# Altium schematic symbol library SCH_Passive.SchLib: 32 symbols
Pins are listed as number, name and electrical type; pins without a type are passive.

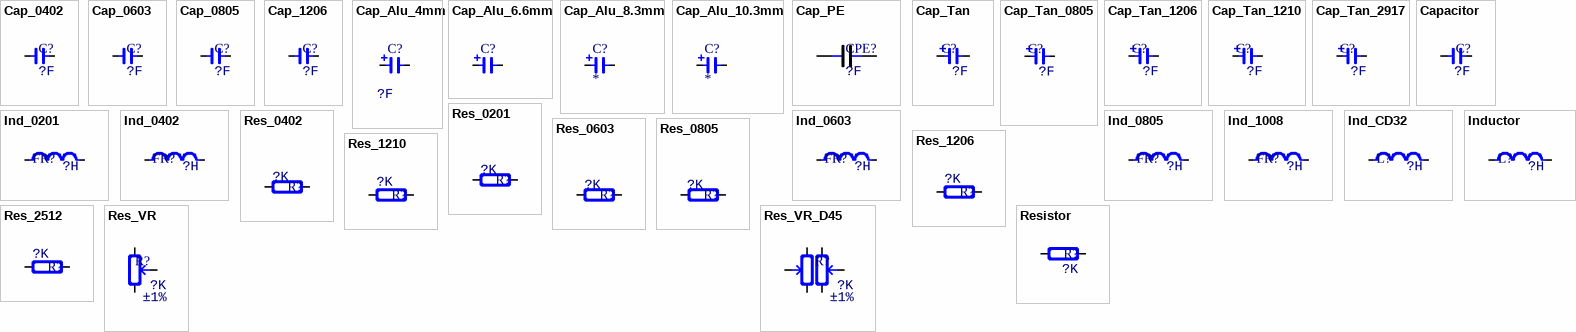
[diagram p0: symbols Cap_0402 to Resistor]

## Cap_0402
designator C?  value ?F
Capacitor; Supplier: https://www.thegioiic.com/product/tu-gom-dan-smd?prid=6678; ComponentLink1Description: New link; ComponentLink1URL: *
footprint CAP_0402
pins: 1, 2

## Cap_0603
designator C?  value ?F
Capacitor; Supplier: https://www.thegioiic.com/product/tu-gom-dan-smd?prid=6679
footprint CAP-0603
pins: 1, 2

## Cap_0805
designator C?  value ?F
Capacitor; Supplier: https://www.thegioiic.com/product/tu-gom-dan-smd?prid=6680
footprint CAP-0805
pins: 1, 2

## Cap_1206
designator C?  value ?F
Capacitor; Supplier: https://www.thegioiic.com/product/tu-gom-dan-smd?prid=6681
footprint CAP-1206
pins: 1, 2

## Cap_Alu_4mm
designator C?  value ?F  (hidden comment: *)
Capacitor Alunium; Supplier: https://www.thegioiic.com/product/tu-hoa-nhom?prid=6714
footprint CAP ALUM 6.6MM (Aluminum Electrolytic Capacitor, Body 6.60x6.60x7.70mm, IPC Low Density)
pins: 1, 2

## Cap_Alu_6.6mm
designator C?  (value not drawn)
Capacitor Alunium; Value: ?F; Supplier: https://www.thegioiic.com/product/tu-hoa-nhom?prid=6714
footprint CAP ALUM 6.6MM (Aluminum Electrolytic Capacitor, Body 6.60x6.60x7.70mm, IPC Low Density)
pins: 1, 2

## Cap_Alu_8.3mm
designator C?
Capacitor Alunium; Value: ?F; Supplier: https://www.thegioiic.com/product/tu-hoa-nhom?prid=6714
footprint CAP ALUM 8.3MM (Aluminum Electrolytic Capacitor, Body 8.30x8.30x10.50mm, IPC Low Density)
pins: 1, 2

## Cap_Alu_10.3mm
designator C?
Capacitor Alunium; Value: ?F; Supplier: https://www.thegioiic.com/product/tu-hoa-nhom?prid=6714
footprint CAP ALUM 10.3MM (Aluminum Electrolytic Capacitor, Body 10.30x10.30x10.50mm, IPC Low Density)
pins: 1, 2

## Cap_PE
designator CPE?  value ?F
Capacitor; Supplier: https://www.thegioiic.com/products/tu-gom-xanh-10nf-3000v
footprint CN3 (Cap np W 0.3)
pins: 1, 2

## Cap_Tan
designator C?  value ?F
Capacitor Tantalum; Manufacturer: *
footprint CAP_TAN_0805
footprint CAP_TAN_1206 (Molded Capacitor, 2-Leads, Body 3.20x1.60mm, IPC Medium Density)
footprint CAP_TAN_1210 (Molded Capacitor, 2-Leads, Body 3.50x2.80mm, IPC Medium Density)
footprint CAP_TAN_2312 (Molded Capacitor, 2-Leads, Body 6.00x3.20mm, IPC Medium Density)
footprint CAP_TAN_2917 (Molded Capacitor, 2-Leads, Body 7.30x4.30mm, IPC Medium Density)
pins: 1, 2
1 alternate drawing of the same symbol

## Cap_Tan_0805
designator C?  value ?F
Capacitor Tantalum; Manufacturer: *
footprint CAP_TAN_0805
pins: 1, 2
1 alternate drawing of the same symbol

## Cap_Tan_1206
designator C?, comment value ?F  (hidden comment: C1206)
Capacitor Tantalum; Supplier: https://www.thegioiic.com/product/tu-tantalum?prid=6887%2C20772&stock=1
footprint CAP_TAN_1206 (Molded Capacitor, 2-Leads, Body 3.20x1.60mm, IPC Medium Density)
pins: 1, 2
1 alternate drawing of the same symbol

## Cap_Tan_1210
designator C?, comment value ?F  (hidden comment: C1210)
Capacitor Tantalum; Manufacturer: *
footprint CAP_TAN_1210 (Molded Capacitor, 2-Leads, Body 3.50x2.80mm, IPC Medium Density)
pins: 1, 2
1 alternate drawing of the same symbol

## Cap_Tan_2917
designator C?, comment value ?F  (hidden comment: C2917)
Capacitor Tantalum; Manufacturer: *
footprint CAP_TAN_2917 (Molded Capacitor, 2-Leads, Body 7.30x4.30mm, IPC Medium Density)
pins: 1, 2
1 alternate drawing of the same symbol

## Capacitor
designator C?  value ?F
Unpolarized capacitor; Note: ±10%; Manufacturer: *
footprint CAP-0402
footprint CAP-0603
footprint CAP-0805
footprint CAP-1206
footprint CAP-2520 (TOKO INDUCTOR DFE252012 SERIES)
footprint CAP-3225 (Chip Capacitor, Body 3.2x2.5mm, IPC Medium Density)
pins: 1, 2

## Ind_0201
designator FR?, comment value ?H  (hidden comment: H0201)
Inductor; Specification: High frequency chip inductor ±5%; Manufacturer: *
footprint IND_0201
pins: 1, 2

## Ind_0402
designator FR?, comment value ?H  (hidden comment: H0402)
Inductor; Specification: High frequency chip inductor ±5%; Manufacturer: *
footprint IND_0402
pins: 1, 2

## Ind_0603
designator FR?, comment value ?H  (hidden comment: H0603)
Inductor; Specification: High frequency chip inductor ±5%; Manufacturer: *
footprint IND_0603
pins: 1, 2

## Ind_0805
designator FR?, comment value ?H  (hidden comment: H0805)
Inductor; Specification: High frequency chip inductor ±5%; Manufacturer: *
footprint IND_0805
pins: 1, 2

## Ind_1008
designator FR?, comment value ?H  (hidden comment: H1008)
Inductor; Specification: High frequency chip inductor ±5%; Manufacturer: *
footprint IND_1008
pins: 1, 2

## Ind_CD32
designator L?, comment value ?H  (hidden comment: CD32)
Power Inductor; Specification: High frequency chip inductor ±5%; Manufacturer: *
footprint IND_CD32
pins: 1, 2

## Inductor
designator L?  value ?H
SMD Inductor; Manufacturer: *
footprint INDP120120X80N (Precision Wire Wound Inductor, 2-Leads, Body 12.00x12.00mm, IPC Medium Density)
pins: 1, 2

## Res_0201
designator R?, comment value ?K  (hidden comment: R0201)
Resistor; Specification: ±1%; Manufacturer: *
footprint RES-0201
pins: 1, 2

## Res_0402
designator R?, comment value ?K  (hidden comment: R0402)
Resistor; Manufacturer: *
footprint RES-0402
pins: 1, 2

## Res_0603
designator R?, comment value ?K  (hidden comment: R0603)
Resistor; Supplier: https://www.thegioiic.com/product/dien-tro-dan-smd?prid=6628&stock=1
footprint RES-0603
pins: 1, 2

## Res_0805
designator R?, comment value ?K  (hidden comment: R0805)
Resistor; Supplier: https://www.thegioiic.com/product/dien-tro-dan-smd?prid=6630&stock=1
footprint RES-0805
pins: 1, 2

## Res_1206
designator R?  value ?K
Resistor; Supplier: https://www.thegioiic.com/product/dien-tro-dan-smd?prid=6632&stock=1
footprint RES-1206
pins: 1, 2

## Res_1210
designator R?  value ?K
Resistor; Manufacturer: *
footprint RES-1210 (Chip Capacitor, Body 3.2x2.5mm, IPC Medium Density)
pins: 1, 2

## Res_2512
designator R?, comment value ?K  (hidden comment: R2512)
Resistor; Specification: ±1%; Supplier: https://www.thegioiic.com/product/dien-tro-dan-smd?prid=6635&stock=1; Type: 2512
footprint RES_2512
pins: 1, 2

## Res_VR
designator R?, comment value ?K  Note: ±1%  (hidden comment: VR)
Resistor Variable; Manufacturer: *; Specification: ±1%; Type: VR
footprint RES_VR_Gear
pins: 1, 2, 3

## Res_VR_D45
designator R?, comment value ?K  Note: ±1%  (hidden comment: VR_D45)
Resistor Variable; Manufacturer: *; Specification: ±1%; Type: VR_D45
footprint RES_VR_D45mm
pins: 1 U, 2 W, 3 U, 4 W, 5 D, 6 D

## Resistor
designator R?, comment value ?K  (hidden comment: R0805)
SMD Resistor; Specification: ±1%; Manufacturer: *; Note: ±1%
footprint RES_0201
footprint RES_0402
footprint RES_0603
footprint RES_0805
footprint RES_2512
pins: 1, 2